# EAGLE library part 738-208 (library con-wago_738)
Serie 738, Vierstock-Klemmenleiste für Leiterplatten Lötstifte für Stockwerk 2 und 4 um das 1/2 Rastermaß versetzt / Series 738, Quadruple-deck PCB terminal strip solder pins for deck 2 and 4 staggered by half the pin spacing Polzahl / Pole No.: 8 Rastermaß / Pitch: 5 mm Bemessungsspannung / Rated Voltage: 320 V Nennstrom / Nominal Current: 18 A Leiterquerschnitt / Conductor Size: 0.08 - 2.5 mm² Anschlusstechnik / Connection Technology: CAGE CLAMP® Lötstiftlänge: / Solder Pin Length: 4 mm Leitereinführung (zur Platine) / Conductor entry angle (to PCB): 45 ° Farbe / Color: grau / gray Stand: 01.01.2012. Die jeweils aktuellen Daten zu diesem Artikel finden Sie in unserem Produktkatalog, den Sie unter www.wago.com einsehen können. As of: 01/01/2012. Please find the newest data for this article in our product catalogue, which can be viewed under www.wago.com.
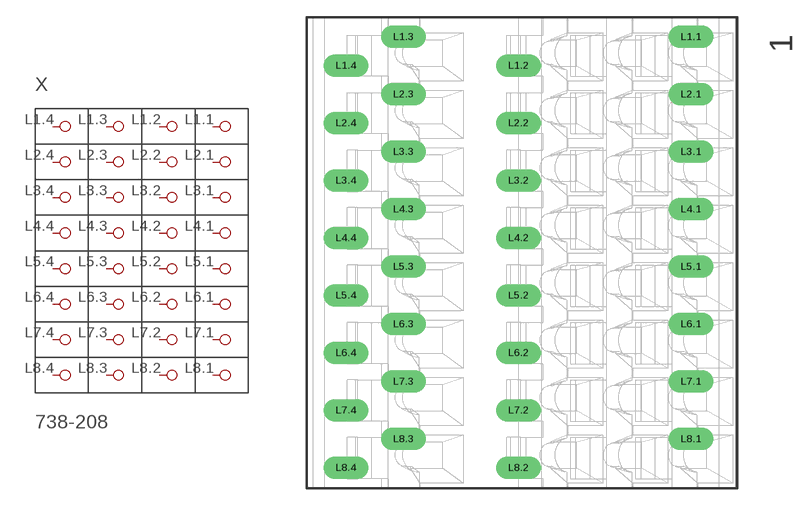
[diagram p12: symbol with the pads of P-738-208; footprint P-738-208]

Designator prefix X

## 738-208  [P-738-208]
L1.1  P1.1
L1.2  P1.2
L1.3  P1.3
L1.4  P1.4
L2.1  P2.1
L2.2  P2.2
L2.3  P2.3
L2.4  P2.4
L3.1  P3.1
L3.2  P3.2
L3.3  P3.3
L3.4  P3.4
L4.1  P4.1
L4.2  P4.2
L4.3  P4.3
L4.4  P4.4
L5.1  P5.1
L5.2  P5.2
L5.3  P5.3
L5.4  P5.4
L6.1  P6.1
L6.2  P6.2
L6.3  P6.3
L6.4  P6.4
L7.1  P7.1
L7.2  P7.2
L7.3  P7.3
L7.4  P7.4
L8.1  P8.1
L8.2  P8.2
L8.3  P8.3
L8.4  P8.4

## Footprint P-738-208 (pad centres in mm)
drill 1.3 long: L1.1 14.685,18.8; L1.2 -0.315,16.3; L1.3 -10.315,18.8; L1.4 -15.315,16.3; L2.1 14.685,13.8; L2.2 -0.315,11.3; L2.3 -10.315,13.8; L2.4 -15.315,11.3; L3.1 14.685,8.8; L3.2 -0.315,6.3; L3.3 -10.315,8.8; L3.4 -15.315,6.3; L4.1 14.685,3.8; L4.2 -0.315,1.3; L4.3 -10.315,3.8; L4.4 -15.315,1.3; L5.1 14.685,-1.2; L5.2 -0.315,-3.7; L5.3 -10.315,-1.2; L5.4 -15.315,-3.7; L6.1 14.685,-6.2; L6.2 -0.315,-8.7; L6.3 -10.315,-6.2; L6.4 -15.315,-8.7; L7.1 14.685,-11.2; L7.2 -0.315,-13.7; L7.3 -10.315,-11.2; L7.4 -15.315,-13.7; L8.1 14.685,-16.2; L8.2 -0.315,-18.7; L8.3 -10.315,-16.2; L8.4 -15.315,-18.7